# Altium footprint library ANT_PCB_MFRC522_13.56MHZ.PcbLib: 1 footprints
Each footprint in its own frame and in the unit in brackets; x right, y up, seen from the top. Pads: shape width x height; smd on the part's side, far side on the other; paste and mask are expansions set on the pad; w line width, h text height; cw(c..) or ccw(c..) is an arc to the next point about the centre after c.
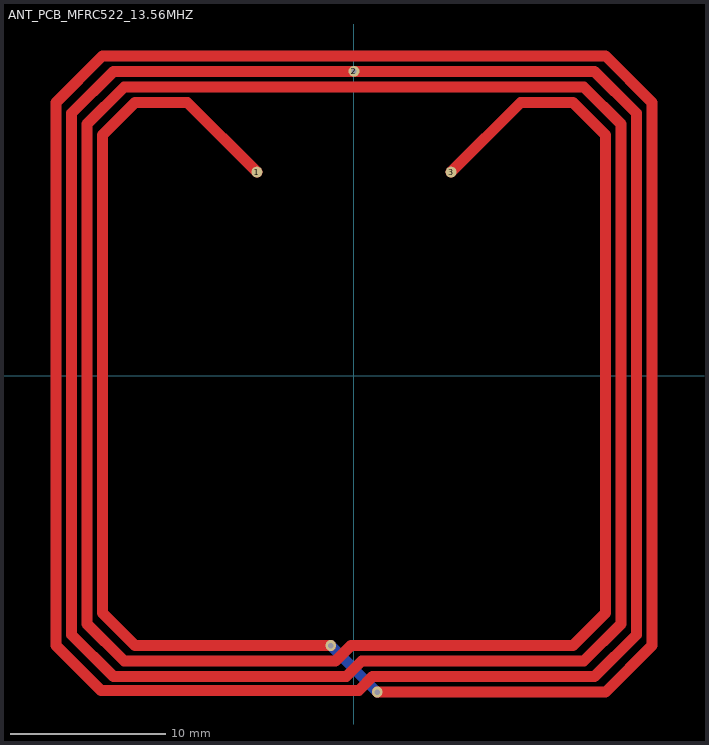
[diagram p0: the footprint, top view; thin cyan lines are the x and y axes]

## ANT_PCB_MFRC522_13.56MHZ [mm]
pads (3):
  round 0.7 smd mask-25.4: 1(-6.251,13.112) 3(6.251,13.112)
  round 0.7 hole 0.35: 2(0,19.6)
via 1.5,-20.4 diameter 0.7 hole 0.35
via -1.5,-17.4 diameter 0.7 hole 0.35
Top Layer:
  lines w0.7: -6.251,13.112 -10.739,17.6 -14.1,17.6 -16.2,15.5 -16.2,-15.3 -14.1,-17.4 -1.5,-17.4 ; 1.5,-20.4 16.2,-20.4 19.2,-17.4 19.2,17.6 16.2,20.6 -16.2,20.6 -19.2,17.6 -19.2,-17.4 -16.307,-20.293 0.307,-20.293 1.2,-19.4 15.5,-19.4 18.2,-16.7 18.2,16.9 15.5,19.6 -15.5,19.6 -18.2,16.9 -18.2,-16.7 -15.5,-19.4 -0.5,-19.4 0.5,-18.4 14.8,-18.4 17.2,-16 17.2,16.2 14.8,18.6 -14.8,18.6 -17.2,16.2 -17.2,-16 -14.8,-18.4 -1.2,-18.4 -0.2,-17.4 14.1,-17.4 16.2,-15.3 16.2,15.5 14.1,17.6 10.739,17.6 6.251,13.112
Bottom Layer:
  lines w0.7: -1.5,-17.4 1.5,-20.4